# Altium schematic symbol library Enc_Panasonic_EVQ-V4300418B_eec.SchLib: 1 symbol
Pins are listed as number, name and electrical type; pins without a type are passive.

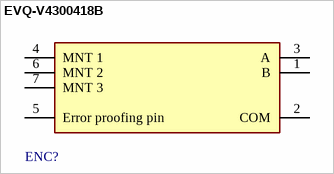
[diagram p0: symbol EVQ-V4300418B]

## EVQ-V4300418B
designator ENC?  (value not drawn)
pins: 1 B, 2 COM, 3 A, 4 MNT 1, 5 Error proofing pin, 6 MNT 2, 7 MNT 3